# Altium footprint library SOD3616X130N.PcbLib: 1 footprints
Each footprint in its own frame and in the unit in brackets; x right, y up, seen from the top. Pads: shape width x height; smd on the part's side, far side on the other; paste and mask are expansions set on the pad; w line width, h text height; cw(c..) or ccw(c..) is an arc to the next point about the centre after c.
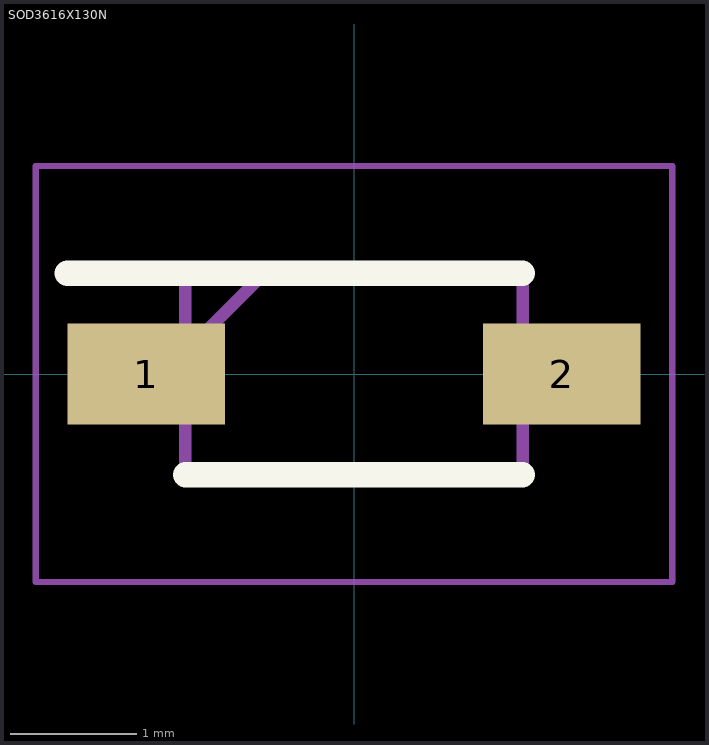
[diagram p0: the footprint, top view; thin cyan lines are the x and y axes]

## SOD3616X130N [mm]
pads (2):
  rect 1.25x0.8 smd: 1(-1.65,0) 2(1.65,0)
Top Overlay:
  lines w0.2: -2.275,0.8 1.338,0.8 ; -1.338,-0.8 1.338,-0.8
Mechanical 15:
  lines w0.1: -1.338,0.175 -0.712,0.8 ; -1.338,-0.8 1.338,-0.8 1.338,0.8 -1.338,0.8 -1.338,-0.8
Mechanical 20:
  lines w0.05: -2.525,-1.65 2.525,-1.65 2.525,1.65 -2.525,1.65 -2.525,-1.65